# EAGLE library part DG9424DQ-T1-E3 (library Vishay)
Low-Voltage, Dual Supply, Low RON, Quad SPST Analog Switches
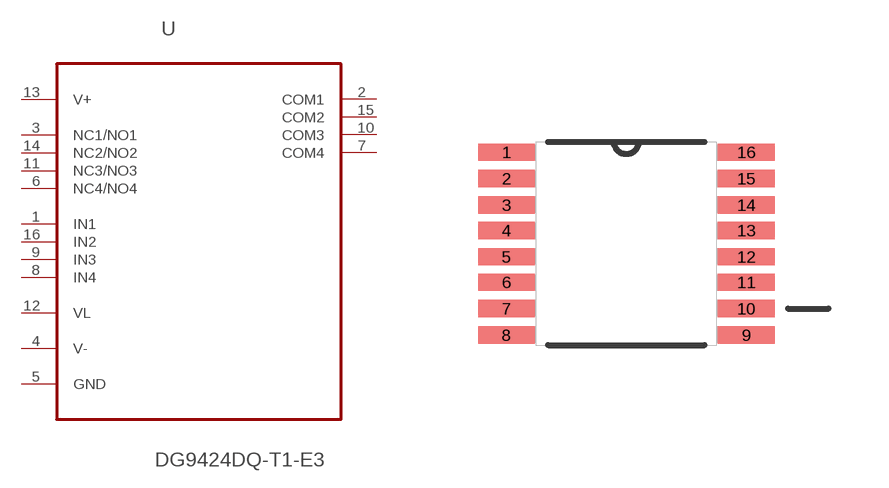
[diagram p71: symbol with the pads of SOP65P640X120-16N; footprint SOP65P640X120-16N]

Designator prefix U

## DG9424DQ-T1-E3 (MPN: DG9424DQ-T1-E3; OC_FARNELL: 1651903; OC_NEWARK: 06J4754; PACKAGE: TSSOP-16; SUPPLIER: VISHAY SILICONIX)  [SOP65P640X120-16N]
1  IN1  in
2  COM1  pas
3  NC1/NO1  pas
4  V-  pwr
5  GND  pas
6  NC4/NO4  pas
7  COM4  pas
8  IN4  in
9  IN3  in
10  COM3  pas
11  NC3/NO3  pas
12  VL  pwr
13  V+  pwr
14  NC2/NO2  pas
15  COM2  pas
16  IN2  in

## Footprint SOP65P640X120-16N (pad centres in mm)
smd 1.422 x 0.432: 1 -2.997,2.286; 2 -2.997,1.626; 3 -2.997,0.965; 4 -2.997,0.33; 5 -2.997,-0.33; 6 -2.997,-0.965; 7 -2.997,-1.626; 8 -2.997,-2.286; 9 2.997,-2.286; 10 2.997,-1.626; 11 2.997,-0.965; 12 2.997,-0.33; 13 2.997,0.33; 14 2.997,0.965; 15 2.997,1.626; 16 2.997,2.286